# Altium footprint library 2021-03-03_13-19-43.PcbLib: 1 footprints
Each footprint in its own frame and in the unit in brackets; x right, y up, seen from the top. Pads: shape width x height; smd on the part's side, far side on the other; paste and mask are expansions set on the pad; w line width, h text height; cw(c..) or ccw(c..) is an arc to the next point about the centre after c.
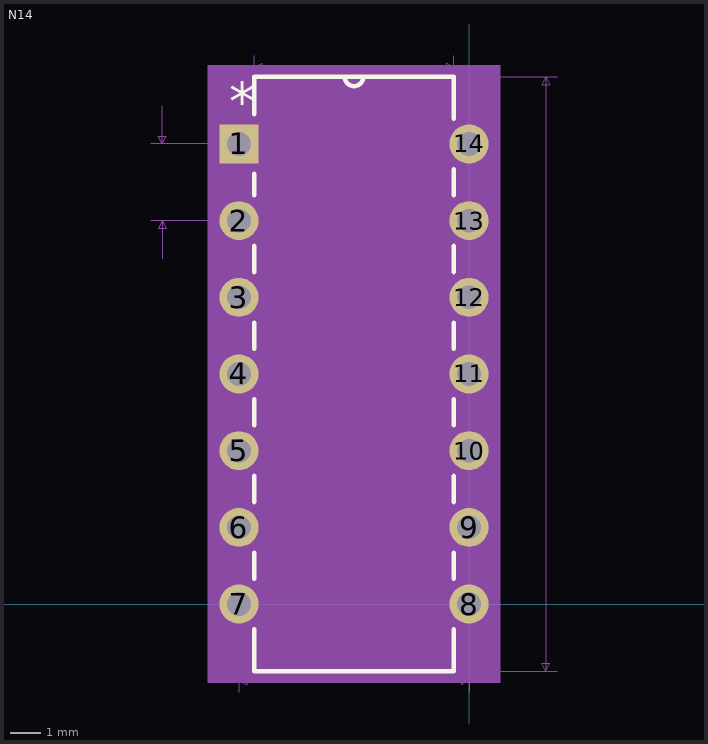
[diagram p0: the footprint, top view; thin cyan lines are the x and y axes]

## N14 [mil]
pads (14):
  rect 51x51 hole 31: 1(-300,600)
  round 51 hole 31: 2(-300,500) 3(-300,400) 4(-300,300) 5(-300,200) 6(-300,100) 7(-300,0) 8(0,0) 9(0,100) 10(0,200) 11(0,300) 12(0,400) 13(0,500) 14(0,600)
Top Overlay:
  lines w6: -280,-33.01 -280,-87.5 -20,-87.5 -20,-33.01 ; -280,33.01 -280,66.99 ; -280,133.01 -280,166.99 ; -280,233.01 -280,266.99 ; -280,333.01 -280,366.99 ; -280,433.01 -280,466.99 ; -280,533.01 -280,561.4 ; -280,638.6 -280,687.5 -20,687.5 -20,633.01 ; -162,687.5 ccw(c-150,687.5) -138,687.5 ; -20,33.01 -20,66.99 ; -20,133.01 -20,166.99 ; -20,233.01 -20,266.99 ; -20,333.01 -20,366.99 ; -20,433.01 -20,466.99 ; -20,533.01 -20,566.99
  text "*" at -312.5,630.5 h50
Mechanical 5:
  region: 40.5,-102.5 -340.5,-102.5 -340.5,702.5 40.5,702.5
Mechanical 7:
  lines w1: -415,500 -300,500 ; -415,600 -300,600 ; -400,450 -400,500 ; -400,650 -400,600 ; -300,-115 -300,0 ; -280,0 -280,715 ; -150,-87.5 115,-87.5 ; -150,687.5 115,687.5 ; -20,0 -20,715 ; 0,-115 0,0 ; -400,500 -405,490 -395,490 -400,500 ; -400,600 -405,610 -395,610 -400,600 ; -300,-100 0,-100 ; -300,-100 -290,-95 -290,-105 -300,-100 ; -280,700 -20,700 ; -280,700 -270,705 -270,695 -280,700 ; -20,700 -30,705 -30,695 -20,700 ; 0,-100 -10,-95 -10,-105 0,-100 ; 100,-87.5 100,687.5 ; 100,-87.5 95,-77.5 105,-77.5 100,-87.5 ; 100,687.5 95,677.5 105,677.5 100,687.5
  text "Default Padstyle: EX51Y51D31P" at -512.5,-287.5 h50
  text "Pin 1 Padstyle: SX51Y51D31P" at -487.5,-387.5 h50
  text ".1in/2.54mm" at -557.5,537.5 h25
  text ".3in/7.62mm" at -218.75,-145 h25
  text ".26in/6.604mm" at -231.25,720 h25
  text ".775in/19.685mm" at 120,287.5 h25
Mechanical 13:
  lines w0: -162,687.5 ccw(c-150,687.5) -138,687.5
  lines w1: -315.5,-15.5 -315.5,15.5 -280,15.5 -280,-15.5 -315.5,-15.5 ; -315.5,84.5 -315.5,115.5 -280,115.5 -280,84.5 -315.5,84.5 ; -315.5,184.5 -315.5,215.5 -280,215.5 -280,184.5 -315.5,184.5 ; -315.5,284.5 -315.5,315.5 -280,315.5 -280,284.5 -315.5,284.5 ; -315.5,384.5 -315.5,415.5 -280,415.5 -280,384.5 -315.5,384.5 ; -315.5,484.5 -315.5,515.5 -280,515.5 -280,484.5 -315.5,484.5 ; -315.5,584.5 -315.5,615.5 -280,615.5 -280,584.5 -315.5,584.5 ; -280,-87.5 -20,-87.5 -20,687.5 -280,687.5 -280,-87.5 ; -20,-15.5 -20,15.5 15.5,15.5 15.5,-15.5 -20,-15.5 ; -20,84.5 -20,115.5 15.5,115.5 15.5,84.5 -20,84.5 ; -20,184.5 -20,215.5 15.5,215.5 15.5,184.5 -20,184.5 ; -20,284.5 -20,315.5 15.5,315.5 15.5,284.5 -20,284.5 ; -20,384.5 -20,415.5 15.5,415.5 15.5,384.5 -20,384.5 ; -20,484.5 -20,515.5 15.5,515.5 15.5,484.5 -20,484.5 ; -20,584.5 -20,615.5 15.5,615.5 15.5,584.5 -20,584.5
  text "*" at -312.5,630.5 h50
Mechanical 15:
  region: 35.5,-97.5 -335.5,-97.5 -335.5,697.5 35.5,697.5
  lines w6: -335.5,-97.5 35.5,-97.5 35.5,697.5 -335.5,697.5 -335.5,-97.5
3D body: height 10, standoff 0, extent 0,0 10,10